# Altium footprint library Components - 11.04.24 - 18.12.PcbLib: 1 footprints
Each footprint in its own frame and in the unit in brackets; x right, y up, seen from the top. Pads: shape width x height; smd on the part's side, far side on the other; paste and mask are expansions set on the pad; w line width, h text height; cw(c..) or ccw(c..) is an arc to the next point about the centre after c.
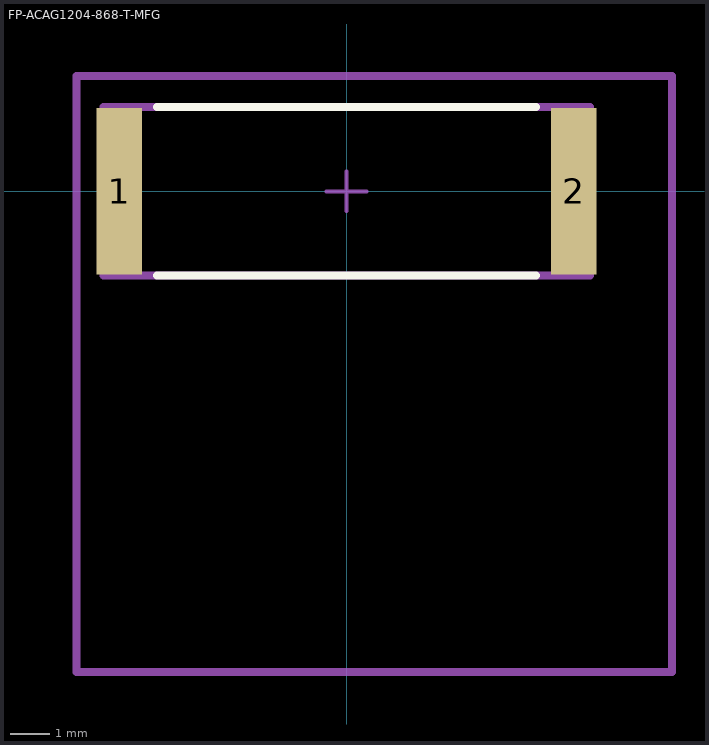
[diagram p0: the footprint, top view; thin cyan lines are the x and y axes]

## FP-ACAG1204-868-T-MFG [mm]
pads (2):
  rect 1.15x4.2 smd paste+0 mask+0: 1(-5.725,0) 2(5.725,0)
Top Overlay:
  lines w0.2: -4.775,-2.125 4.775,-2.125 ; -4.775,2.125 4.775,2.125
Top Assembly:
  lines w0.2: -6.8,-12.1 8.2,-12.1 8.2,2.9 -6.8,2.9 -6.8,-12.1
  text ".Designator" at 0.7,-4.601 h1
Top 3D Body:
  lines w0.2: -6.125,-2.125 6.125,-2.125 6.125,2.125 -6.125,2.125 -6.125,-2.125
Top Courtyard:
  lines w0.2: -6.8,-12.1 8.2,-12.1 8.2,2.9 -6.8,2.9 -6.8,-12.1
Top Component Center:
  lines w0.1: -0.5,0 0.5,0 ; 0,-0.5 0,0.5
3D body "Ant_Abracon_ACAG1204-868-T_eec.STEP": height 0.25, standoff 0, extent -6.8,-12.1 8.2,2.9